# Altium integrated library T520A107M006ATE070.IntLib: 1 symbol
Pins are listed as number, name and electrical type; pins without a type are passive.

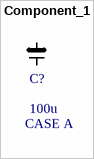
[diagram p0: symbol Component_1]

## Component_1
designator C?, comment 100u  CASE TYPE: CASE A
Buying URL:: https://uk.farnell.com/kemet/t520a107m006ate070/cap-tant-polymer-100uf-6-3v-case/dp/2837540?ost=T520A107M006ATE070&ddkey=https%3Aen-GB%2FElement14_United_Kingdom%2Fsearch
footprint CAPCP3216X18N (Chip Capacitor, 2-Leads, Body 3.20x1.60mm, IPC Medium Density)
pins: 1, 2